# Altium integrated library RN73C2A4K42BTG.IntLib: 1 symbol
Pins are listed as number, name and electrical type; pins without a type are passive.

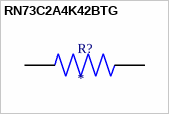
[diagram p0: symbol RN73C2A4K42BTG]

## RN73C2A4K42BTG
designator R?
RN 0805 4K42 0.1% 10PPM CUT LENGTH; MP: RN73C2A4K42BTG; Package: None; Price: None; Value: *; Availability: Unavailable
footprint RESC2012X65N
pins: 1, 2